# Altium footprint library TEXT_COMMENT.PcbLib: 1 footprints
Each footprint in its own frame and in the unit in brackets; x right, y up, seen from the top. Pads: shape width x height; smd on the part's side, far side on the other; paste and mask are expansions set on the pad; w line width, h text height; cw(c..) or ccw(c..) is an arc to the next point about the centre after c.

## TEXT_COMMENT [mm] "Comment special text field"
Top Overlay:
  text ".Comment" at 0,0 h1.27